# EAGLE library part LT3105 (library OSSI)
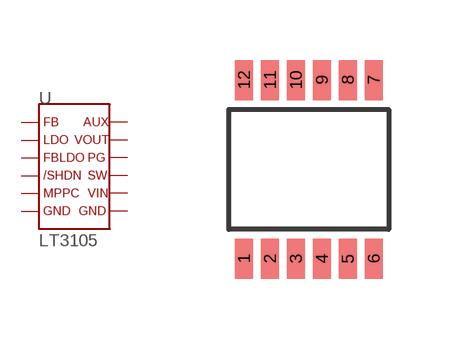
[diagram p57: symbol with the pads of MSOP-12-MS; footprint MSOP-12-MS]

Designator prefix U

## LT3105-MS  [MSOP-12-MS]
1  P$1
2  P$2
3  P$3
4  P$4
5  P$5
6  P$6
7  P$7
8  P$8
9  P$9
10  P$10
11  P$11
12  P$12

## Footprint MSOP-12-MS (pad centres in mm)
smd 0.45 x 1: 1 -1.625,-2.233; 2 -0.975,-2.233; 3 -0.325,-2.233; 4 0.325,-2.233; 5 0.975,-2.233; 6 1.625,-2.233; 7 1.625,2.233; 8 0.975,2.233; 9 0.325,2.233; 10 -0.325,2.233; 11 -0.975,2.233; 12 -1.625,2.233